# Altium schematic symbol library Vocore2Parts.SchLib: 15 symbols
Pins are listed as number, name and electrical type; pins without a type are passive.

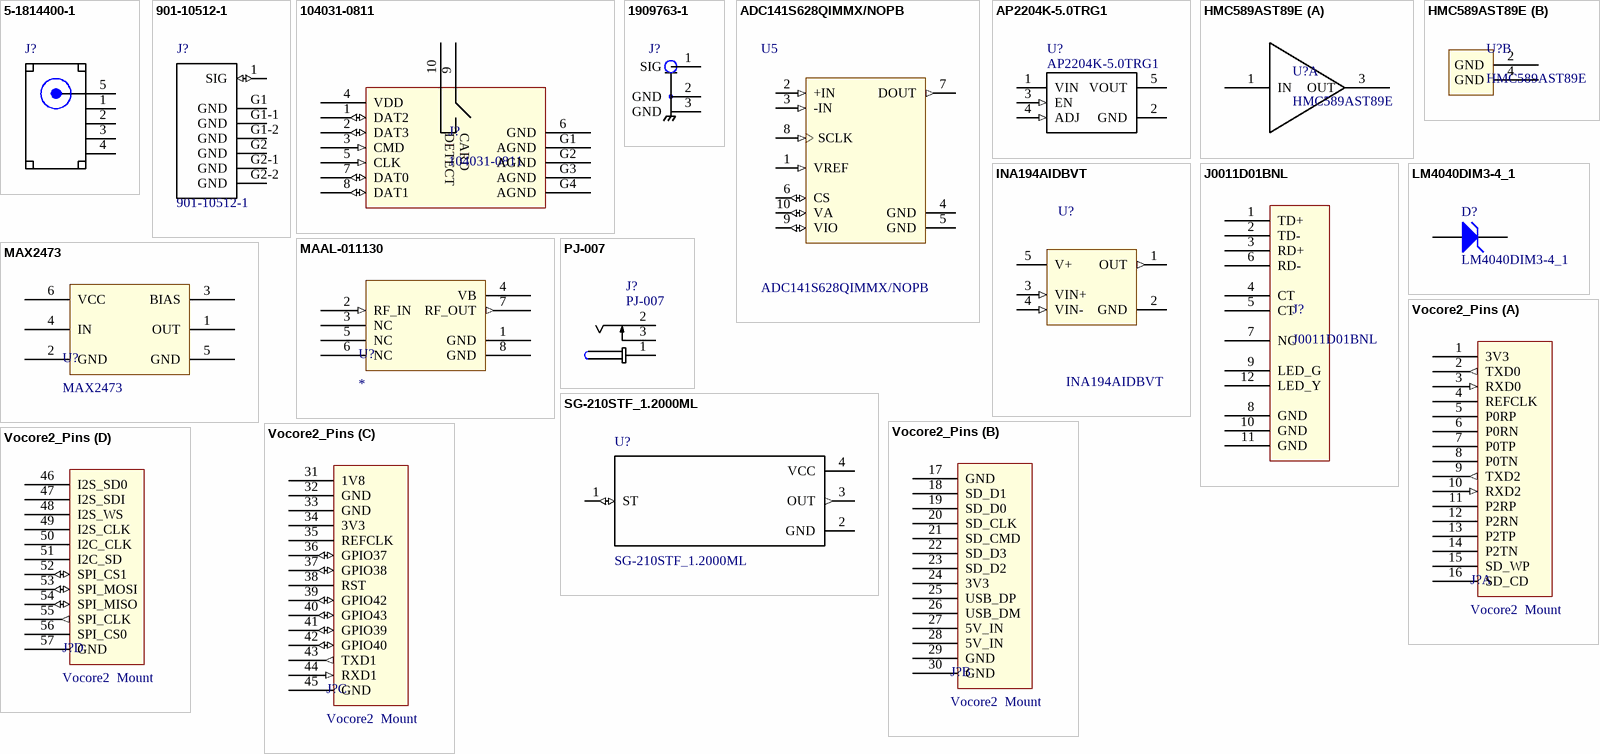
[diagram p0: symbols 5-1814400-1 to Vocore2_Pins]

## 5-1814400-1
designator J?  (value not drawn)
SMA R/A PCB Skt GZD; Number_of_Positions: 1; MF: TE Connectivity; Digi-Key_Purchase_URL: https://www.digikey.com/product-detail/en/te-connectivity-amp-connectors/5-1814400-1/A97593-ND/1755981?WT.z_cid=ref_snapeda&utm_source=snapeda&utm_medium=aggregator&utm_campaign=buynow; Digi-Key_Part_Number: A97593-ND; EU_RoHS_Compliance: Compliant; Package: None; MP: 5-1814400-1; Link: http://www.te.com/usa-en/product-5-1814400-1.html; SnapEDA_Link: https://www.snapeda.com/symbols-footprints/5-1814400-1/TE%20Connectivity%20AMP%20Connectors/view-part/?ref=snap; Value: *
footprint CONN_5-1814400-1
pins: 1 GND (power), 2 GND (power), 3 GND (power), 4 GND (power), 5 SIGNAL

## 901-10512-1
designator J?
CONN SMA JACK R/A 50OHM EDGE MNT; MF: Amphenol RF; Availability: Warning; MP: 901-10512-1; Price: 7.21 USD; Package: None; Value: *
footprint AMPHENOL_901-10512-1_901-10512-1(Primary)
pins: 1 SIG (io), G1 GND (power), G1-1 GND (power), G1-2 GND (power), G2 GND (power), G2-1 GND (power), G2-2 GND (power)

## 104031-0811
designator J?
1.10mm Pitch microSD Memory Card Connector, SMT, Push-Pull Type, 1.42mm Height, with Detect Switch; Manufacturer: Molex; Manufacturer Part Number: 104031-0811; Part Number: 104031-0811; Value: *; Supplier: Arrow; URL: https://www.arrow.com/en/products/1040310811/molex?utm_source=octopart&utm_medium=aggregator&utm_campaign=octopart_2017&utm_content=inv_listing&utm_keyword=1040310811; Supplier 1: Digi-Key; Supplier Part Number 1: WM6357CT-ND
footprint MOLEX_104031-0811_104031-0811(Primary)
pins: 1 DAT2 (io), 2 DAT3 (io), 3 CMD (in), 4 VDD (power), 5 CLK (in), 6 GND (power), 7 DAT0 (io), 8 DAT1 (io), 9 CARD_DETECT1, 10 CARD_DETECT2, G1 AGND (power), G2 AGND (power), G3 AGND (power), G4 AGND (power)
text: DETECT; CARD

## 1909763-1
designator J?  (value not drawn)
CONN UMCC JACK STR 50OHM SMD; Number_of_Positions: 1; MF: TE Connectivity; Availability: Good; MP: 1909763-1; Price: 0.28 USD; Package: None; Value: *
footprint TE_1909763-1
pins: 1 SIG, 2 GND, 3 GND

## ADC141S628QIMMX/NOPB
designator U5
IC CONVERTER A/D 14-BIT 10-MSOP; MF: Texas Instruments; Availability: Good; Price: 4.07 USD; MP: ADC141S628QIMMX/NOPB; Package: MSOP-10 Texas Instruments; Value: *
footprint SOP50P490X110-11N
pins: 1 VREF (in), 2 +IN (in), 3 -IN (in), 4 GND (power), 5 GND (power), 6 CS (io), 7 DOUT (out), 8 SCLK (in), 9 VIO (io), 10 VA (io)

## AP2204K-5.0TRG1
designator U?
IC REG LINEAR 5V 150MA SOT23-5; MF: Diodes Inc.; Availability: Good; MP: AP2204K-5.0TRG1; Price: 0.20 USD; Package: SOT-23-5 Diodes Inc.; Value: *
footprint SOT95P280X145-5N
pins: 1 VIN (power), 2 GND (power), 3 EN (in), 4 ADJ (in), 5 VOUT (power)

## HMC589AST89E
designator U?
part A pins: 1 IN, 3 OUT
part B pins: 2 GND, 4 GND

## INA194AIDBVT
designator U?
IC CURRENT MONITOR 3% SOT23-5; MF: Texas Instruments; Package: SOT-23 Texas Instruments; MP: INA194AIDBVT; Price: 1.55 USD; Availability: Good; Value: *
footprint SOT95P280X145-5N
pins: 1 OUT (out), 2 GND, 3 VIN+ (in), 4 VIN- (in), 5 V+ (power)

## J0011D01BNL
designator J?
CONN MAGJACK 1PORT 100 BASE-TX; Manufacturer: Pulse Electronics Network; Supplier 1: Digi-Key; Supplier Part Number 1: 553-1483-ND; Manufacturer Part Number: J0011D01BNL; URL: https://www.digikey.com/short/q8f3j9; Value: *
footprint J00-00XXNL_J00-0061NL(Primary)
pins: 1 TD+, 2 TD-, 3 RD+, 4 CT, 5 CT, 6 RD-, 7 NC, 8 GND (power), 9 LED_G, 10 GND (power), 11 GND (power), 12 LED_Y

## LM4040DIM3-4_1
designator D?
IC VREF SHUNT 4.096V SOT23; MF: Texas Instruments; MP: LM404DIM4-4.1; Availability: Good; Package: SOT23 Texas Instruments; Price: 0.41 USD; Value: *
footprint SOT95P237X112-3N
simulation model ZENER (Diode)
signal-integrity model D Zener
pins: 1 A, 2 K

## MAAL-011130
designator U?
pins: 1 GND (power), 2 RF_IN (in), 3 NC, 4 VB, 5 NC, 6 NC, 7 RF_OUT (out), 8 GND (power)

## MAX2473
designator U?
pins: 1 OUT, 2 GND (power), 3 BIAS, 4 IN, 5 GND, 6 VCC

## PJ-007
designator J?
1.3 mm Center Pin, 1.0 A, Right Angle, Through Hole, Dc Power Jack Connector; MF: CUI; SnapEDA_Link: https://www.snapeda.com/parts/PJ-007/CUI/view-part/?ref=snap; Availability: Good; Package: None; Price: 0.36 USD; MP: PJ-007; Value: *
footprint PJ-007
pins: 1 T, 2 S, 3 SS

## SG-210STF_1.2000ML
designator U?
Spxo 1.6-3.6v 50ppm -40/+85c; MP: SG-210STF 1.2000ML; MF: EPSON; Availability: Bad; SnapEDA_Link: https://www.snapeda.com/symbols-footprints/SG-210STF%201.2000ML/EPSON/view-part/?ref=snap; Package: SMD-4 Epson; Price: 1.41 USD; Value: *
footprint OSCCC200X160X50
pins: 1 ST (io), 2 GND (power), 3 OUT (out), 4 VCC (power)

## Vocore2_Pins
designator J?, comment Vocore2  Mount
footprint Vocore2_Mount_One_Row
part A pins: 1 3V3 (power), 2 TXD0 (out), 3 RXD0 (in), 4 REFCLK, 5 P0RP, 6 P0RN, 7 P0TP, 8 P0TN, 9 TXD2 (out), 10 RXD2 (in), 11 P2RP, 12 P2RN, 13 P2TP, 14 P2TN, 15 SD_WP, 16 SD_CD
part B pins: 17 GND (power), 18 SD_D1, 19 SD_D0, 20 SD_CLK, 21 SD_CMD, 22 SD_D3, 23 SD_D2, 24 3V3 (power), 25 USB_DP, 26 USB_DM, 27 5V_IN (power), 28 5V_IN (power), 29 GND (power), 30 GND (power)
part C pins: 31 1V8 (power), 32 GND (power), 33 GND, 34 3V3 (power), 35 REFCLK, 36 GPIO37 (io), 37 GPIO38 (io), 38 RST, 39 GPIO42 (io), 40 GPIO43 (io), 41 GPIO39 (io), 42 GPIO40 (io), 43 TXD1 (out), 44 RXD1 (in), 45 GND (power)
part D pins: 46 I2S_SD0, 47 I2S_SDI, 48 I2S_WS, 49 I2S_CLK (power), 50 I2C_CLK, 51 I2C_SD, 52 SPI_CS1 (io), 53 SPI_MOSI (io), 54 SPI_MISO (io), 55 SPI_CLK (out), 56 SPI_CS0, 57 GND (power)